# Altium schematic symbol library IRLR7843.SchLib: 2 symbols
Pins are listed as number, name and electrical type; pins without a type are passive.

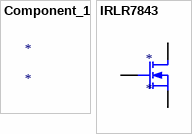
[diagram p0: symbols Component_1 to IRLR7843]

## Component_1
designator *

## IRLR7843
designator *
footprint DPAK (D-PAK, 3-Pads, Body 6,21x6,73mm (max), IPC Medium Density)
pins: 1 GATE, 3 SOURCE, 4 DRAIN